# EAGLE library part DF13A-30DP (library auv)
DF13-30DP Double row, 1.25mm Pitch Miniature Crimping Connector.
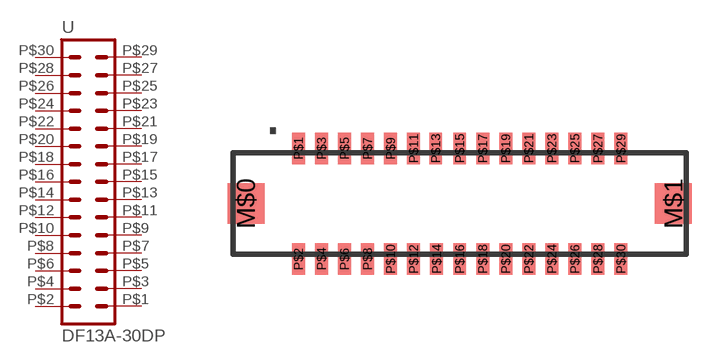
[diagram p48: symbol with the pads of DF13A-30DP-1.25V; footprint DF13A-30DP-1.25V]

Designator prefix -

## DF13A-30DP40DP-1.25V  [DF13A-30DP-1.25V]
P$1  1  pas
P$2  2  pas
P$3  3  pas
P$4  4  pas
P$5  5  pas
P$6  6  pas
P$7  7  pas
P$8  8  pas
P$9  9  pas
P$10  10  pas
P$11  11  pas
P$12  12  pas
P$13  13  pas
P$14  14  pas
P$15  15  pas
P$16  16  pas
P$17  17  pas
P$18  18  pas
P$19  19  pas
P$20  20  pas
P$21  21  pas
P$22  22  pas
P$23  23  pas
P$24  24  pas
P$25  25  pas
P$26  26  pas
P$27  27  pas
P$28  28  pas
P$29  29  pas
P$30  30  pas

## Footprint DF13A-30DP-1.25V (pad centres in mm)
Double Row Straight Pin Header (SMT)
smd 2 x 2.2: M$0 -11.6,0; M$1 11.6,0
smd 0.7 x 1.7: P$1 -8.75,3; P$2 -8.75,-3; P$3 -7.5,3; P$4 -7.5,-3; P$5 -6.25,3; P$6 -6.25,-3; P$7 -5,3; P$8 -5,-3; P$9 -3.75,3; P$10 -3.75,-3; P$11 -2.5,3; P$12 -2.5,-3; P$13 -1.3,3; P$14 -1.25,-3; P$15 0,3; P$16 0,-3; P$17 1.25,3; P$18 1.25,-3; P$19 2.5,3; P$20 2.5,-3; P$21 3.75,3; P$22 3.75,-3; P$23 5,3; P$24 5,-3; P$25 6.25,3; P$26 6.25,-3; P$27 7.5,3; P$28 7.5,-3; P$29 8.75,3; P$30 8.75,-3